# Altium schematic symbol library Term,Header,5 Pin,Side,2.54mm.Schlib: 1 symbol
Pins are listed as number, name and electrical type; pins without a type are passive.

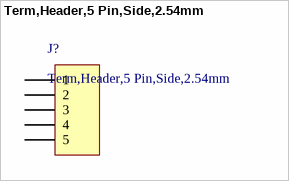
[diagram p0: symbol Term,Header,5 Pin,Side,2.54mm]

## Term,Header,5 Pin,Side,2.54mm
designator J?
CONN HEADER R/A 5POS 2.54MM
pins: 1, 2, 3, 4, 5